# EAGLE library part SM06B-GHS (library RoboJackets-Connectors)
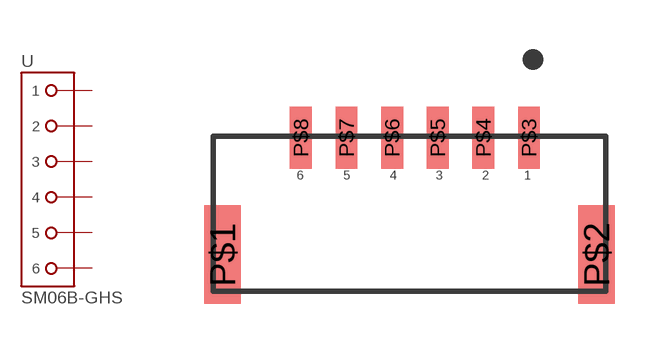
[diagram p15: symbol with the pads of SM06B-GHS; footprint SM06B-GHS]

Designator prefix -

## SM06B-GHS  [SM06B-GHS]
P$3  1  pas
P$4  2  pas
P$5  3  pas
P$6  4  pas
P$7  5  pas
P$8  6  pas

## Footprint SM06B-GHS (pad centres in mm)
smd 1 x 2.7: P$1 0.25,1; P$2 10.5,1
smd 0.6 x 1.7: P$3 8.65,4.2; P$4 7.4,4.2; P$5 6.15,4.2; P$6 4.9,4.2; P$7 3.65,4.2; P$8 2.4,4.2